# EAGLE library part I__FAN7388 (library ..SMD)
3 Half-Bridge Gate-Drive IC
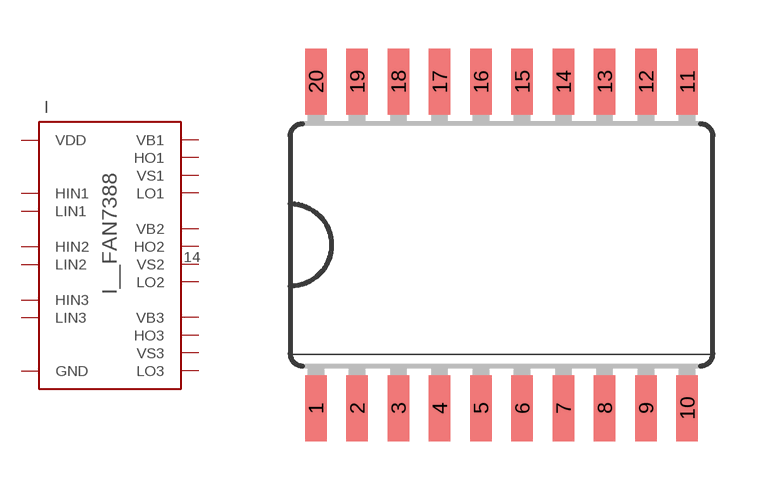
[diagram p351: symbol with the pads of SO20W; footprint SO20W]

Designator prefix I

## I__FAN7388  [SO20W]
1  HIN1
2  LIN1
3  HIN2
4  LIN2
5  HIN3
6  LIN3
7  LO3
8  VS3
9  HO3
10  VB3
11  GND
12  VDD
13  LO2
14  VS2
15  HO2
16  VB2
17  LO1
18  VS1
19  HO1
20  VB1

## Footprint SO20W (pad centres in mm)
Wide Small Outline package 300 mil
smd 0.66 x 2.032: 1 -5.715,-5.029; 2 -4.445,-5.029; 3 -3.175,-5.029; 4 -1.905,-5.029; 5 -0.635,-5.029; 6 0.635,-5.029; 7 1.905,-5.029; 8 3.175,-5.029; 9 4.445,-5.029; 10 5.715,-5.029; 11 5.715,5.029; 12 4.445,5.029; 13 3.175,5.029; 14 1.905,5.029; 15 0.635,5.029; 16 -0.635,5.029; 17 -1.905,5.029; 18 -3.175,5.029; 19 -4.445,5.029; 20 -5.715,5.029